# Altium footprint library SnapEDApcb.PcbLib: 1 footprints
Each footprint in its own frame and in the unit in brackets; x right, y up, seen from the top. Pads: shape width x height; smd on the part's side, far side on the other; paste and mask are expansions set on the pad; w line width, h text height; cw(c..) or ccw(c..) is an arc to the next point about the centre after c.
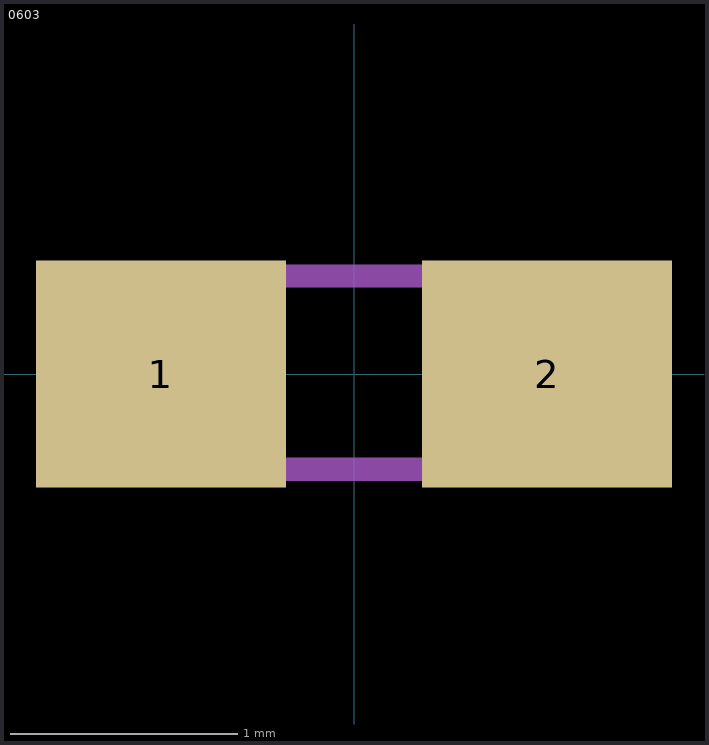
[diagram p0: the footprint, top view; thin cyan lines are the x and y axes]

## 0603 [mm]
pads (2):
  rect 1.1x1 smd: 1(-0.85,0) 2(0.85,0)
Mechanical 13:
  region: 0.83,-0.47 0.331,-0.47 0.331,0.48 0.83,0.48
  region: -0.338,-0.471 -0.84,-0.471 -0.84,0.48 -0.338,0.48
  lines w0.102: -0.356,-0.419 0.356,-0.419 ; -0.356,0.432 0.356,0.432
3D body "LTST-C193TBKT-5A--3DModel-STEP-56544.STEP": height 0, standoff -0.35, extent -0.8,-0.4 0.8,0.4